# EAGLE library part PGA11 (library MasterPhonebot)
PGA113 Description The PGA112 and PGA113 (binary/scope gains) offer two analog inputs, a three-pin SPI interface, and software shutdown in an MSOP-10 package. The PGA116 and PGA117 (binary/scope gains) offer 10 analog inputs, a four-pin SPI interface with daisy-chain capability, and hardware and software shutdown in a TSSOP-20 package. All versions provide internal calibration channels for system-level calibration. The channels are tied to GND, 0.9VCAL, 0.1VCAL, and VREF, respectively. VCAL, an external voltage connected to Channel 0, is used as the system calibration reference. Binary gains are: 1, 2, 4, 8, 16, 32, 64, and 128; scope gains are: 1, 2, 5, 10, 20, 50, 100, and 200. Features Rail-to-Rail Input/Output Offset: 25µV (typ), 100µV (max) Zerø-Drift: 0.35µV/°C (typ), 1.2µV/°C (max) Low Noise: 12nV/√Hz Input Offset Current: ±5nA max (+25°C) Gain Error: 0.1% max (G ≤ 32), 0.3% max (G > 32) Binary Gains: 1, 2, 4, 8, 16, 32, 64, 128(PGA112, PGA116) Scope Gains: 1, 2, 5, 10, 20, 50, 100, 200 (PGA113, PGA117) Gain Switching Time: 200ns Two Channel MUX: PGA112, PGA113 10 Channel MUX: PGA116, PGA117 Four Internal Calibration Channels Amplifier Optimized for Driving CDAC ADCs Output Swing: 50mV to Supply Rails AVDD and DVDD for Mixed Voltage Systems IQ = 1.1mA (typ) Software/Hardware Shutdown: IQ ≤ 4µA (typ) Temperature Range: -40°C to +125°C SPI Interface (10MHz) with Daisy-Chain Capability APPLICATIONS Remote e-Meter Reading Automatic Gain Control Portable Data Acquisition PC-Based Signal Acquisition Systems Test and Measurement Programmable Logic Controllers Battery-Powered Instruments Handheld Test Equipment Details see: Datasheet <http://www.ti.com/lit/ds/symlink/pga113.pdf> General Informations: www.ti.com <http://www.ti.com/product/PGA113> Created: L.Lischke 2015-03-21 (c) KK-Prime Engineering GmbH
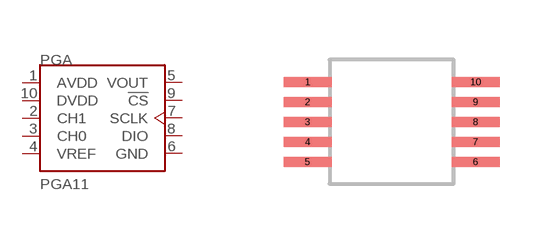
[diagram p14: symbol with the pads of SOP50P490X110-10L; footprint SOP50P490X110-10L]

Designator prefix PGA

## PGA112AIDGSR (GAINS: Binary), PGA113AIDGSR (GAINS: Scope)  [SOP50P490X110-10L]
1  AVDD  pwr
2  CH1  in
3  CH0  in
4  VREF  in
5  VOUT  out
6  GND  pwr
7  SCLK  in
8  DIO
9  !CS  in
10  DVDD  pwr

## Footprint SOP50P490X110-10L (pad centres in mm)
10 Lead PSO Package: S-PDSO-G10 IPC: SOP50P490X110-10L Created: L.Lischke 2015-03-21 (c) KK-Prime Engineering GmbH
smd 1.2 x 0.25: 1 -2.1,1; 2 -2.1,0.5; 3 -2.1,0; 4 -2.1,-0.5; 5 -2.1,-1; 6 2.1,-1; 7 2.1,-0.5; 8 2.1,0; 9 2.1,0.5; 10 2.1,1